# EAGLE library part TUS_MODULE_SUPPLY (library tus)
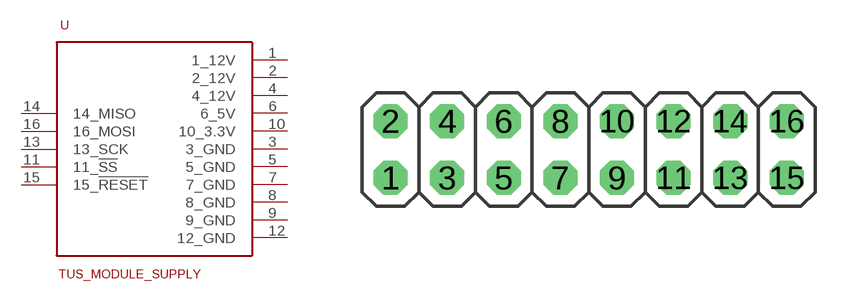
[diagram p0: symbol with the pads of 2X08; footprint 2X08]

Designator prefix -

## TUS_MODULE_SUPPLY  [2X08]
1  1_12V
2  2_12V
3  3_GND
4  4_12V
5  5_GND
6  6_5V
7  7_GND
8  8_GND
9  9_GND
10  10_3.3V
11  11_!SS
12  12_GND
13  13_SCK
14  14_MISO
15  15_!RESET
16  16_MOSI

## Footprint 2X08 (pad centres in mm)
PIN HEADER
drill 1.016 octagon: 1 -8.89,-1.27; 2 -8.89,1.27; 3 -6.35,-1.27; 4 -6.35,1.27; 5 -3.81,-1.27; 6 -3.81,1.27; 7 -1.27,-1.27; 8 -1.27,1.27; 9 1.27,-1.27; 10 1.27,1.27; 11 3.81,-1.27; 12 3.81,1.27; 13 6.35,-1.27; 14 6.35,1.27; 15 8.89,-1.27; 16 8.89,1.27